# EAGLE library part 74AHC125 (library LEMS)
Quadruple Bus Buffer Gate by TI
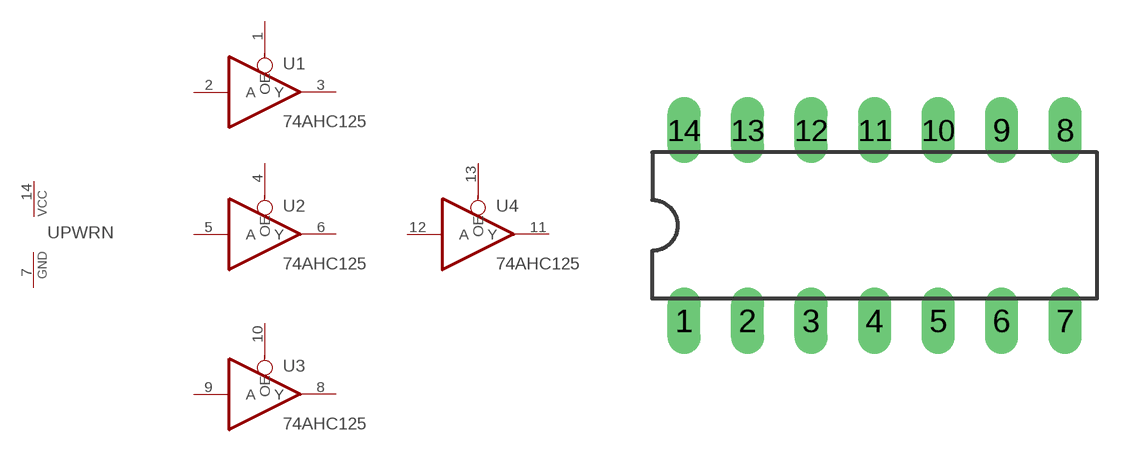
[diagram p4: symbol with the pads of DIL14; footprint DIL14]

Designator prefix -; gates 1=74AHC125 2=74AHC125 3=74AHC125 PWRN=PWRN 4=74AHC125

## 74AHC125N  [DIL14]
1  1:OE  in
2  1:A  in
3  1:Y  hiz
4  2:OE  in
5  2:A  in
6  2:Y  hiz
7  PWRN:GND  pwr
8  3:Y  hiz
9  3:A  in
10  3:OE  in
11  4:Y  hiz
12  4:A  in
13  4:OE  in
14  PWRN:VCC  pwr

## Footprint DIL14 (pad centres in mm)
14-Pin Dual Inline Package
drill 0.813 long: 1 -7.62,-3.81; 2 -5.08,-3.81; 3 -2.54,-3.81; 4 0,-3.81; 5 2.54,-3.81; 6 5.08,-3.81; 7 7.62,-3.81; 8 7.62,3.81; 9 5.08,3.81; 10 2.54,3.81; 11 0,3.81; 12 -2.54,3.81; 13 -5.08,3.81; 14 -7.62,3.81